# Altium footprint library 1nF_Y2.PcbLib: 1 footprints
Each footprint in its own frame and in the unit in brackets; x right, y up, seen from the top. Pads: shape width x height; smd on the part's side, far side on the other; paste and mask are expansions set on the pad; w line width, h text height; cw(c..) or ccw(c..) is an arc to the next point about the centre after c.
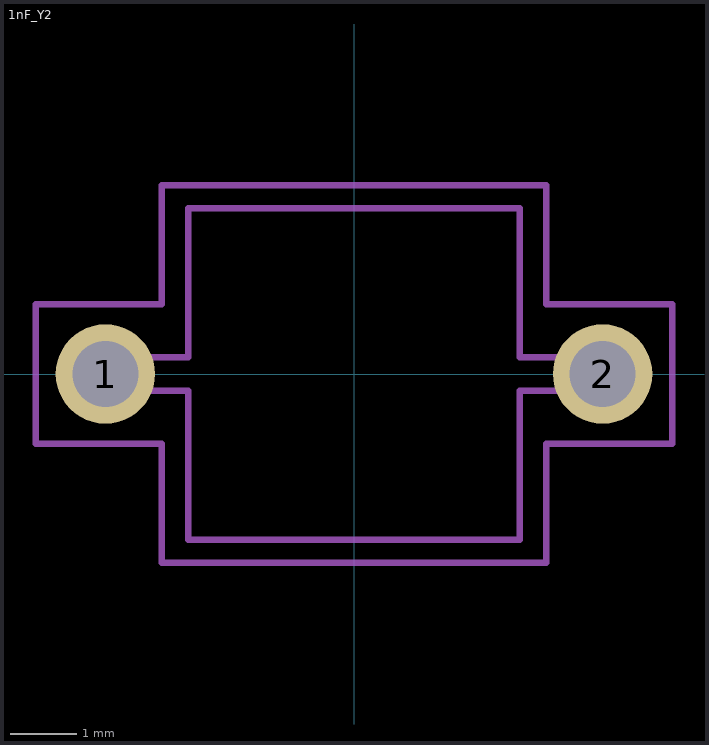
[diagram p0: the footprint, top view; thin cyan lines are the x and y axes]

## 1nF_Y2 [mm]
pads (2):
  round 1.5 hole 1: 1(-3.75,0) 2(3.75,0)
Mechanical 13:
  lines w0.1: -4.064,-0.254 -2.5,-0.254 -2.5,-2.5 2.5,-2.5 2.5,-0.254 2.667,-0.254 4.064,-0.254 4.064,0.254 2.5,0.254 2.5,2.5 -2.5,2.5 -2.5,0.254 -2.667,0.254 -4.064,0.254 -4.064,-0.254
Mechanical 15:
  lines w0.1: -4.8,-1.05 -2.9,-1.05 -2.9,-2.85 2.9,-2.85 2.9,-1.05 4.8,-1.05 4.8,1.05 2.9,1.05 2.9,2.85 -2.9,2.85 -2.9,1.05 -4.8,1.05 -4.8,-1.05
3D body: height 7.67, standoff -2.3, extent -4.139,-1.522 4.159,1.478